# Altium footprint library IC Footprints.PcbLib: 34 footprints (part 2 of 3)
Each footprint in its own frame and in the unit in brackets; x right, y up, seen from the top. Pads: shape width x height; smd on the part's side, far side on the other; paste and mask are expansions set on the pad; w line width, h text height; cw(c..) or ccw(c..) is an arc to the next point about the centre after c.
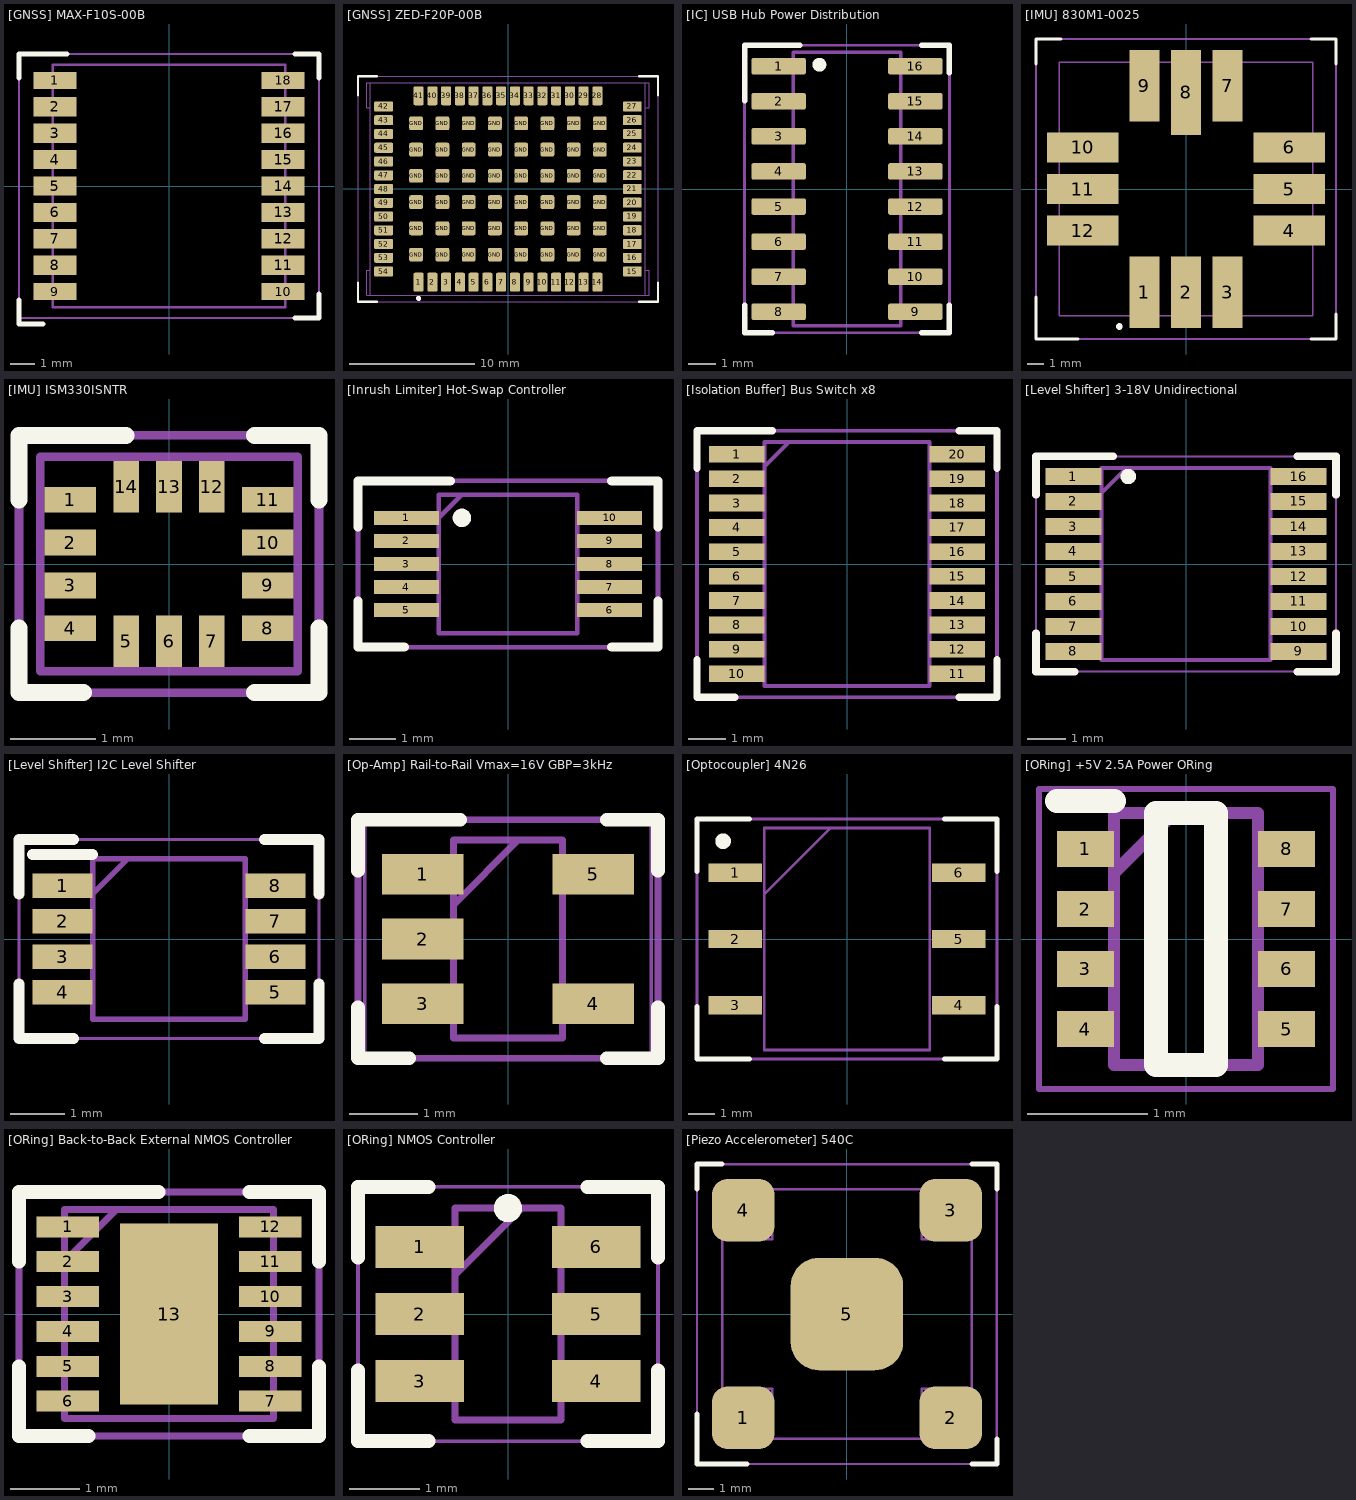
[diagram p1: the footprints below, top view; thin cyan lines are the x and y axes]

## [Gas Sensor] NOx, Particulate Matter (SENSOR) [mm]
3D body "[Gas Sensor] NOx, Particulate Matter.STEP": height 22.3, standoff 0, extent -21.781,-26.475 21.781,26.475

## [GNSS] MAX-F10S-00B [mm] "MAX-F10S-00B"
pads (18):
  rect 1.8x0.7 smd: 1(-4.75,4.4) 9(-4.75,-4.4) 10(4.75,-4.4) 18(4.75,4.4)
  rect 1.8x0.8 smd: 2(-4.75,3.3) 3(-4.75,2.2) 4(-4.75,1.1) 5(-4.75,0) 6(-4.75,-1.1) 7(-4.75,-2.2) 8(-4.75,-3.3) 11(4.75,-3.3) 12(4.75,-2.2) 13(4.75,-1.1) 14(4.75,0) 15(4.75,1.1) 16(4.75,2.2) 17(4.75,3.3)
Top Overlay:
  lines w0.2: -6.25,-4.75 -6.25,-5.75 -5.25,-5.75 ; -6.25,4.5 -6.25,5.5 -4.25,5.5 ; 5.25,-5.5 6.25,-5.5 ; 5.25,5.5 6.25,5.5 6.25,4.5 ; 6.25,-5.5 6.25,-4.5 6.25,-5.5
Physical Outline:
  lines w0.1: -4.85,-5.05 4.85,-5.05 4.85,5.05 -4.85,5.05 -4.85,-5.05
Part Outline:
  lines w0.1: -6.25,-5.5 6.25,-5.5 6.25,5.5 -6.25,5.5 -6.25,-5.5
3D body "MAX-F10S-00B.stp": height 2.48, standoff 0.01, extent -4.85,-5.35 4.85,5.05

## [GNSS] ZED-F20P-00B [mm] "ZED-F20P-00B"
pads (102):
  rrect25% 0.8x1.5 smd: 1(-7.15,-7.45) 2(-6.05,-7.45) 3(-4.95,-7.45) 4(-3.85,-7.45) 5(-2.75,-7.45) 6(-1.65,-7.45) 7(-0.55,-7.45) 8(0.55,-7.45) 9(1.65,-7.45) 10(2.75,-7.45) 11(3.85,-7.45) 12(4.95,-7.45) 13(6.05,-7.45) 14(7.15,-7.45) 28(7.15,7.45) 29(6.05,7.45) 30(4.95,7.45) 31(3.85,7.45) 32(2.75,7.45) 33(1.65,7.45) 34(0.55,7.45) 35(-0.55,7.45) 36(-1.65,7.45) 37(-2.75,7.45) 38(-3.85,7.45) 39(-4.95,7.45) 40(-6.05,7.45) 41(-7.15,7.45)
  rrect25% 1.5x0.8 smd: 15(9.95,-6.6) 16(9.95,-5.5) 17(9.95,-4.4) 18(9.95,-3.3) 19(9.95,-2.2) 20(9.95,-1.1) 21(9.95,0) 22(9.95,1.1) 23(9.95,2.2) 24(9.95,3.3) 25(9.95,4.4) 26(9.95,5.5) 27(9.95,6.6) 42(-9.95,6.6) 43(-9.95,5.5) 44(-9.95,4.4) 45(-9.95,3.3) 46(-9.95,2.2) 47(-9.95,1.1) 48(-9.95,0) 49(-9.95,-1.1) 50(-9.95,-2.2) 51(-9.95,-3.3) 52(-9.95,-4.4) 53(-9.95,-5.5) 54(-9.95,-6.6)
  rrect25% 1.1x1.1 smd: GND(-7.35,-5.25) GND(-7.35,-3.15) GND(-7.35,-1.05) GND(-7.35,1.05) GND(-7.35,3.15) GND(-7.35,5.25) GND(-5.25,-5.25) GND(-5.25,-3.15) GND(-5.25,-1.05) GND(-5.25,1.05) GND(-5.25,3.15) GND(-5.25,5.25) GND(-3.15,-5.25) GND(-3.15,-3.15) GND(-3.15,-1.05) GND(-3.15,1.05) GND(-3.15,3.15) GND(-3.15,5.25) GND(-1.05,-5.25) GND(-1.05,-3.15) GND(-1.05,-1.05) GND(-1.05,1.05) GND(-1.05,3.15) GND(-1.05,5.25) GND(1.05,-5.25) GND(1.05,-3.15) GND(1.05,-1.05) GND(1.05,1.05) GND(1.05,3.15) GND(1.05,5.25) GND(3.15,-5.25) GND(3.15,-3.15) GND(3.15,-1.05) GND(3.15,1.05) GND(3.15,3.15) GND(3.15,5.25) GND(5.25,-5.25) GND(5.25,-3.15) GND(5.25,-1.05) GND(5.25,1.05) GND(5.25,3.15) GND(5.25,5.25) GND(7.35,-5.25) GND(7.35,-3.15) GND(7.35,-1.05) GND(7.35,1.05) GND(7.35,3.15) GND(7.35,5.25)
Top Overlay:
  circle w0.2: c-7.15,-8.75 r0.1
  lines w0.2: -12,-7.5 -12,-9 -10.5,-9 ; -12,7.5 -12,9 -10.5,9 ; 10.5,-9 12,-9 12,-7.5 ; 10.5,9 12,9 12,7.5
Physical Outline:
  lines w0.1: -11,-6.5 -11.3,-6.5 -11.3,-8.5 -11,-8.5 ; -11,6.5 -11.3,6.5 -11.3,8.5 -11,8.5 ; 11,-6.5 11.3,-6.5 11.3,-8.5 11,-8.5 ; 11,6.5 11.3,6.5 11.3,8.5 11,8.5 ; -11,-8.5 -11,8.5 ; -11,-8.5 11,-8.5 ; -11,8.5 11,8.5 ; 11,-8.5 11,8.5
Part Outline:
  lines w0.1: -12,-9 -12,9 12,9 12,-9 -12,-9
3D body "ZED-F20P-00B.stp": height 2.5, standoff 0, extent -11.3,-8.5 11.3,8.5

## [IC] USB Hub Power Distribution [mm]
pads (16):
  rrect25% 1.97x0.6 smd: 1(-2.475,4.445) 2(-2.475,3.175) 3(-2.475,1.905) 4(-2.475,0.635) 5(-2.475,-0.635) 6(-2.475,-1.905) 7(-2.475,-3.175) 8(-2.475,-4.445) 9(2.475,-4.445) 10(2.475,-3.175) 11(2.475,-1.905) 12(2.475,-0.635) 13(2.475,0.635) 14(2.475,1.905) 15(2.475,3.175) 16(2.475,4.445)
Top Overlay:
  circle w0.3: c-1,4.5 r0.1
  lines w0.2: -3.71,-4.2 -3.71,-5.2 -2.71,-5.2 ; -3.71,3.2 -3.71,5.2 -1.71,5.2 ; 2.71,-5.2 3.71,-5.2 3.71,-4.2 ; 2.71,5.2 3.71,5.2 3.71,4.2
Physical Outline:
  lines w0.127: -1.95,-4.95 1.95,-4.95 1.95,4.95 -1.95,4.95 -1.95,-4.95
Part Outline:
  lines w0.1: -3.71,-5.2 3.71,-5.2 3.71,5.2 -3.71,5.2 -3.71,-5.2
3D body "step_temp.STEP": height 1.75, standoff 0, extent -3,-4.95 3,4.95

## [IMU] 830M1-0025 [mm] "830M1-0025"
pads (12):
  rect 1.8x4.3 smd: 1(-2.5,-6.2) 2(0,-6.2) 3(2.5,-6.2) 7(2.5,6.2) 9(-2.5,6.2)
  rect 4.3x1.8 smd: 4(6.2,-2.5) 5(6.2,0) 6(6.2,2.5) 10(-6.2,2.5) 11(-6.2,0) 12(-6.2,-2.5)
  rect 1.8x5.1 smd: 8(0,5.8)
Top Overlay:
  circle w0.2: c-4,-8.25 r0.1
  lines w0.2: -9,-6.5 -9,-9 -6.5,-9 ; -9,7.5 -9,9 -7.5,9 ; 7.5,-9 9,-9 9,-7.5 ; 7.5,9 9,9 9,7.5
Physical Outline:
  lines w0.1: -7.6,-7.6 7.6,-7.6 7.6,7.6 -7.6,7.6 -7.6,-7.6
Part Outline:
  lines w0.1: -9,-9 9,-9 9,9 -9,9 -9,-9
3D body "830M1-1000.stp": height 4.19, standoff 0, extent -7.62,-7.62 7.62,7.62

## [IMU] ISM330ISNTR [mm]
pads (14):
  rect 0.6x0.3 smd: 1(-1.15,0.75) 2(-1.15,0.25) 3(-1.15,-0.25) 4(-1.15,-0.75) 8(1.15,-0.75) 9(1.15,-0.25) 10(1.15,0.25) 11(1.15,0.75)
  rect 0.3x0.6 smd: 5(-0.5,-0.9) 6(0,-0.9) 7(0.5,-0.9) 12(0.5,0.9) 13(0,0.9) 14(-0.5,0.9)
Top Overlay:
  lines w0.2: -1.75,-0.75 -1.75,-1.5 -1,-1.5 ; -1.75,0.75 -1.75,1.5 -0.5,1.5 ; 1,-1.5 1.75,-1.5 1.75,-0.75 ; 1,1.5 1.75,1.5 1.75,0.75
Physical Outline:
  lines w0.1: -1.5,-1.25 -1.5,1.25 1.5,1.25 1.5,-1.25 -1.5,-1.25
Part Outline:
  lines w0.1: -1.75,-1.5 -1.75,1.5 1.75,1.5 1.75,-1.5 -1.75,-1.5
3D body "LSM6DSV320XTR.stp": height 0.74, standoff 0, extent -1.5,-1.25 1.5,1.25

## [Inrush Limiter] Hot-Swap Controller [mm] "TPS2491DGSR"
pads (10):
  rect 1.4x0.3 smd: 1(-2.2,1) 2(-2.2,0.5) 3(-2.2,0) 4(-2.2,-0.5) 5(-2.2,-1) 6(2.2,-1) 7(2.2,-0.5) 8(2.2,0) 9(2.2,0.5) 10(2.2,1)
Top Overlay:
  circle w0.2: c-1,1 r0.1
  lines w0.2: -3.25,-0.8 -3.25,-1.8 -2.25,-1.8 ; -3.25,0.8 -3.25,1.8 -1.25,1.8 ; 2.25,-1.8 3.25,-1.8 3.25,-0.8 ; 2.25,1.8 3.25,1.8 3.25,0.8
Physical Outline:
  lines w0.1: -1.5,1 -1,1.5 ; -1.5,-1.5 1.5,-1.5 1.5,1.5 -1.5,1.5 -1.5,-1.5
Part Outline:
  lines w0.1: -3.25,-1.8 3.25,-1.8 3.25,1.8 -3.25,1.8 -3.25,-1.8
3D body "INA226AIDGST.stp": height 1.1, standoff 0, extent -2.463,-1.5 2.463,1.5

## [Isolation Buffer] Bus Switch x8 [mm] "SN74CBTLV3245APWR"
pads (20):
  rect 1.475x0.45 smd: 1(-2.938,2.925) 2(-2.938,2.275) 3(-2.938,1.625) 4(-2.938,0.975) 5(-2.938,0.325) 6(-2.938,-0.325) 7(-2.938,-0.975) 8(-2.938,-1.625) 9(-2.938,-2.275) 10(-2.938,-2.925) 11(2.938,-2.925) 12(2.938,-2.275) 13(2.938,-1.625) 14(2.938,-0.975) 15(2.938,-0.325) 16(2.938,0.325) 17(2.938,0.975) 18(2.938,1.625) 19(2.938,2.275) 20(2.938,2.925)
Top Overlay:
  lines w0.2: -4,-2.55 -4,-3.55 -3,-3.55 ; -4,2.55 -4,3.55 -2,3.55 ; 3,-3.55 4,-3.55 4,-2.55 ; 3,3.55 4,3.55 4,2.55
Physical Outline:
  lines w0.1: -2.2,2.6 -1.55,3.25 ; -2.2,-3.25 -2.2,3.25 2.2,3.25 2.2,-3.25 -2.2,-3.25
Part Outline:
  lines w0.1: -4,-3.55 -4,3.55 4,3.55 4,-3.55 -4,-3.55
3D body "TXS0108EQPWRQ1.stp": height 1.13, standoff 0, extent -3.2,-3.25 3.2,3.25

## [Level Shifter] 3-18V Unidirectional [mm]
pads (16):
  rect 1.45x0.45 smd: 1(-2.925,2.275) 2(-2.925,1.625) 3(-2.925,0.975) 4(-2.925,0.325) 5(-2.925,-0.325) 6(-2.925,-0.975) 7(-2.925,-1.625) 8(-2.925,-2.275) 9(2.925,-2.275) 10(2.925,-1.625) 11(2.925,-0.975) 12(2.925,-0.325) 13(2.925,0.325) 14(2.925,0.975) 15(2.925,1.625) 16(2.925,2.275)
Top Overlay:
  circle w0.2: c-1.5,2.275 r0.1
  lines w0.2: -3.9,-1.8 -3.9,-2.8 -2.9,-2.8 ; -3.9,1.8 -3.9,2.8 -1.9,2.8 ; 2.9,-2.8 3.9,-2.8 3.9,-1.8 ; 2.9,2.8 3.9,2.8 3.9,1.8
Physical Outline:
  lines w0.1: -2.2,1.85 -1.55,2.5 ; -2.2,-2.5 -2.2,2.5 2.2,2.5 2.2,-2.5 -2.2,-2.5
Part Outline:
  lines w0.05: -3.9,-2.8 -3.9,2.8 3.9,2.8 3.9,-2.8 -3.9,-2.8
3D body "MC14504BDTR2G.stp": height 1.2, standoff 0, extent -3.2,-2.5 3.2,2.5

## [Level Shifter] I2C Level Shifter [mm] "PCA9306DCTR"
pads (8):
  rect 1.1x0.45 smd: 1(-1.95,0.975) 2(-1.95,0.325) 3(-1.95,-0.325) 4(-1.95,-0.975) 5(1.95,-0.975) 6(1.95,-0.325) 7(1.95,0.325) 8(1.95,0.975)
Top Overlay:
  lines w0.2: -2.75,-0.825 -2.75,-1.825 -1.75,-1.825 ; -2.75,0.825 -2.75,1.825 -1.75,1.825 ; -2.5,1.55 -1.4,1.55 ; 1.75,-1.825 2.75,-1.825 2.75,-0.825 ; 1.75,1.825 2.75,1.825 2.75,0.825
Physical Outline:
  lines w0.1: -1.4,0.825 -0.75,1.475 ; -1.4,-1.475 -1.4,1.475 1.4,1.475 1.4,-1.475 -1.4,-1.475
Part Outline:
  lines w0.05: -2.75,-1.825 -2.75,1.825 2.75,1.825 2.75,-1.825 -2.75,-1.825
3D body "PCA9306DCTR.stp": height 1.3, standoff 0, extent -2,-1.475 2,1.475

## [Op-Amp] Rail-to-Rail Vmax=16V GBP=3kHz [mm] "LT6003CS5#TRMPBF"
pads (5):
  rect 1.2x0.6 smd: 1(-1.25,0.95) 2(-1.25,0) 3(-1.25,-0.95) 4(1.25,-0.95) 5(1.25,0.95)
Top Overlay:
  lines w0.2: -2.2,-1 -2.2,-1.75 -1.45,-1.75 ; -2.2,1 -2.2,1.75 -0.7,1.75 ; 1.45,-1.75 2.2,-1.75 2.2,-1 ; 1.45,1.75 2.2,1.75 2.2,1
Physical Outline:
  lines w0.1: -0.8,0.5 0.15,1.45 ; -0.8,-1.45 -0.8,1.45 0.8,1.45 0.8,-1.45 -0.8,-1.45
Part Outline:
  lines w0.05: -2.1,-1.775 -2.1,1.775 2.1,1.775 2.1,-1.775 -2.1,-1.775
  lines w0.1: -2.2,-1.75 2.2,-1.75 2.2,1.75 -2.2,1.75 -2.2,-1.75
3D body "TL431IDBVR.stp": height 1.2, standoff 0, extent -1.4,-1.45 1.4,1.45

## [Optocoupler] 4N26 [mm] "4N26S"
pads (6):
  rect 2.05x0.7 smd: 1(-4.275,2.54) 2(-4.275,0) 3(-4.275,-2.54) 4(4.275,-2.54) 5(4.275,0) 6(4.275,2.54)
Top Overlay:
  circle w0.3: c-4.75,3.75 r0.15
  lines w0.2: -5.75,-2.6 -5.75,-4.6 -3.75,-4.6 ; -5.75,2.6 -5.75,4.6 -3.75,4.6 ; 3.75,-4.6 5.75,-4.6 5.75,-2.6 ; 3.75,4.6 5.75,4.6 5.75,2.6
Physical Outline:
  lines w0.1: -3.175,1.715 -0.635,4.255 ; -3.175,-4.255 3.175,-4.255 3.175,4.255 -3.175,4.255 -3.175,-4.255
Part Outline:
  lines w0.1: -5.75,-4.6 5.75,-4.6 5.75,4.6 -5.75,4.6 -5.75,-4.6
3D body "4N26SM.stp": height 4.8, standoff 0, extent -4.583,-4.255 4.583,4.255

## [ORing] +5V 2.5A Power ORing [mm]
pads (8):
  rect 0.475x0.3 smd: 1(-0.838,0.75) 2(-0.838,0.25) 3(-0.838,-0.25) 4(-0.838,-0.75) 5(0.838,-0.75) 6(0.838,-0.25) 7(0.838,0.25) 8(0.838,0.75)
Top Overlay:
  lines w0.2: -1.075,1.15 -0.6,1.15 ; -0.25,-1.05 -0.25,1.05 0.25,1.05 0.25,-1.05 -0.25,-1.05
Physical Outline:
  lines w0.1: -0.6,0.55 -0.1,1.05 ; -0.6,-1.05 -0.6,1.05 0.6,1.05 0.6,-1.05 -0.6,-1.05
Part Outline:
  lines w0.05: -1.225,-1.25 -1.225,1.25 1.225,1.25 1.225,-1.25 -1.225,-1.25
3D body "LM66200DRLR.stp": height 0.6, standoff 0, extent -0.8,-1.02 0.8,1.08

## [ORing] Back-to-Back External NMOS Controller [mm] "LM74810QDRRRQ1"
pads (13):
  rect 0.9x0.3 smd: 1(-1.45,1.25) 2(-1.45,0.75) 3(-1.45,0.25) 4(-1.45,-0.25) 5(-1.45,-0.75) 6(-1.45,-1.25) 7(1.45,-1.25) 8(1.45,-0.75) 9(1.45,-0.25) 10(1.45,0.25) 11(1.45,0.75) 12(1.45,1.25)
  rect 1.4x2.6 smd: 13(0,0)
Top Overlay:
  lines w0.2: -2.15,-0.75 -2.15,-1.75 -1.15,-1.75 ; -2.15,0.75 -2.15,1.75 -0.15,1.75 ; 1.15,-1.75 2.15,-1.75 2.15,-0.75 ; 1.15,1.75 2.15,1.75 2.15,0.75
Physical Outline:
  lines w0.1: -1.5,0.75 -0.75,1.5 ; -1.5,-1.5 1.5,-1.5 1.5,1.5 -1.5,1.5 -1.5,-1.5
Part Outline:
  lines w0.1: -2.15,-1.75 2.15,-1.75 2.15,1.75 -2.15,1.75 -2.15,-1.75
3D body "LM74810QDRRRQ1.stp": height 0.8, standoff 0, extent -1.5,-1.5 1.5,1.5

## [ORing] NMOS Controller [mm]
pads (6):
  rect 1.25x0.6 smd: 1(-1.25,0.95) 2(-1.25,0) 3(-1.25,-0.95) 4(1.25,-0.95) 5(1.25,0) 6(1.25,0.95)
Top Overlay:
  circle w0.2: c0,1.5 r0.1
  lines w0.2: -2.125,-0.8 -2.125,-1.8 -1.125,-1.8 ; -2.125,0.8 -2.125,1.8 -1.125,1.8 ; 1.125,-1.8 2.125,-1.8 2.125,-0.8 ; 1.125,1.8 2.125,1.8 2.125,0.8
Physical Outline:
  lines w0.1: -0.75,0.55 0.2,1.5 ; -0.75,-1.5 0.75,-1.5 0.75,1.5 -0.75,1.5 -0.75,-1.5
Part Outline:
  lines w0.05: -2.125,-1.8 2.125,-1.8 2.125,1.8 -2.125,1.8 -2.125,-1.8
3D body "NCV68061SNAIT1G.stp": height 1.1, standoff 0, extent -1.375,-1.5 1.375,1.5

## [Piezo Accelerometer] 540C [mm]
pads (5):
  rrect50% 2.5x2.5 smd: 1(-4.15,-4.15) 2(4.15,-4.15) 3(4.15,4.15) 4(-4.15,4.15)
  rrect50% 4.5x4.5 smd: 5(0,0)
Top Overlay:
  lines w0.2: -6,-4 -6,-6 -4,-6 ; -6,5 -6,6 -5,6 ; 5,-6 6,-6 6,-5 ; 5,6 6,6 6,5
Physical Outline:
  lines w0.1: -5,-3 -3,-3 -3,-5 ; -5,3 -3,3 -3,5 ; 3,-5 3,-3 5,-3 ; 3,5 3,3 5,3 ; -5,-4 cw(c-5,-5) -4,-5 4,-5 cw(c5,-5) 5,-4 5,4 cw(c5,5) 4,5 -4,5 cw(c-5,5) -5,4 -5,-4
Part Outline:
  lines w0.1: -6,-6 -6,6 6,6 6,-6 -6,-6
3D body "[Piezo Accelerometer] 540C.step": height 5.4, standoff 0, extent -5,-5 5,5